# EAGLE library part DS3231-BREAKOUT (library GlacTracker)
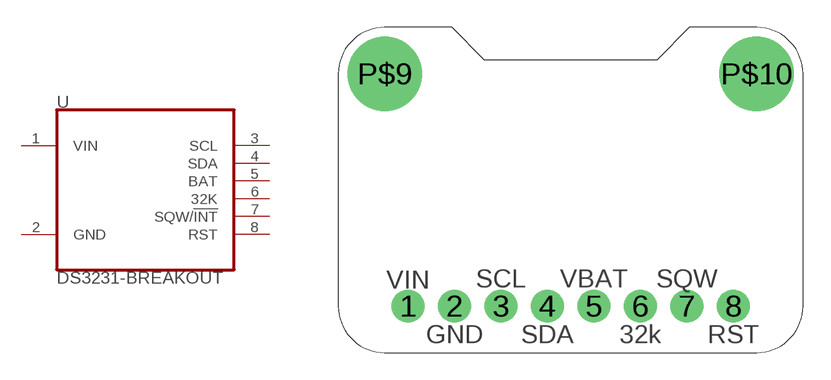
[diagram p6: symbol with the pads of DS3231-BREAKOUT; footprint DS3231-BREAKOUT]

Designator prefix U

## DS3231-BREAKOUT  [DS3231-BREAKOUT]
1  VIN
2  GND
3  SCL
4  SDA
5  BAT
6  32K
7  SQW/!INT
8  RST

## Footprint DS3231-BREAKOUT (pad centres in mm)
drill 1.016 pad 1.778: 1 3.81,2.54; 2 6.35,2.54; 3 8.89,2.54; 4 11.43,2.54; 5 13.97,2.54; 6 16.51,2.54; 7 19.05,2.54; 8 21.59,2.54
drill 3.048: P$9 2.54,15.24; P$10 22.86,15.24